# Altium footprint library SW-SMD_L3.9-W2.9-LS4.8-EH-A_2022-03-15.PcbLib: 1 footprints
Each footprint in its own frame and in the unit in brackets; x right, y up, seen from the top. Pads: shape width x height; smd on the part's side, far side on the other; paste and mask are expansions set on the pad; w line width, h text height; cw(c..) or ccw(c..) is an arc to the next point about the centre after c.
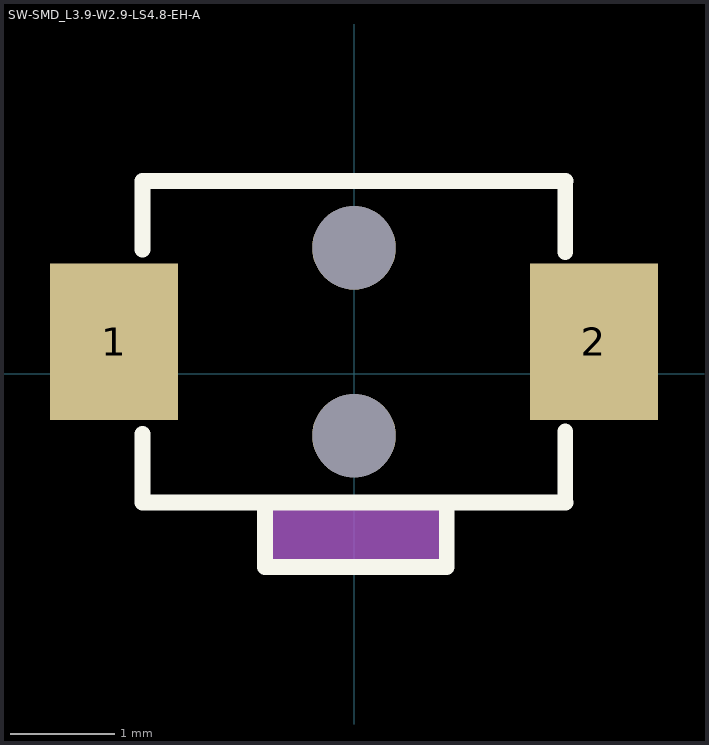
[diagram p0: the footprint, top view; thin cyan lines are the x and y axes]

## SW-SMD_L3.9-W2.9-LS4.8-EH-A [mm]
pads (4):
  rect 1.23x1.5 smd: 1(-2.3,0.309) 2(2.3,0.309)
  round 0.8 hole 0.8 unplated: ""(0,-0.591) ""(0,1.209)
Top Overlay:
  lines w0.15: 2.026,-1.232 2.026,-0.55 ; 2.026,1.168 2.026,1.85
  lines w0.152: -2.026,-0.574 -2.026,-1.232 2.026,-1.232 ; -2.026,1.192 -2.026,1.85 2.026,1.85 ; -0.852,-1.232 -0.852,-1.85 0.762,-1.85 0.889,-1.85 0.889,-1.232
Mechanical 15:
  circle w0.325: c0,-0.591 r0.163
  circle w0.325: c0,1.209 r0.163
  region: -0.889,-1.215 0.889,-1.215 0.889,-1.85 -0.889,-1.85